# Altium schematic symbol library 2480803-1.SchLib: 1 symbol
Pins are listed as number, name and electrical type; pins without a type are passive.

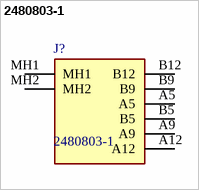
[diagram p0: symbol 2480803-1]

## 2480803-1
designator J?
USB Connectors USB-C Charge Only Receptacle,6 Pin, Vertical, Short, 3u GF; Manufacturer_Name: TE Connectivity; Geometry.Height: 6.5mm; Mouser Part Number: 571-2480803-1; Mouser Price/Stock: https://www.mouser.co.uk/ProductDetail/TE-Connectivity/2480803-1?qs=dbcCsuKDzFUIALFiru2Iew%3D%3D; Manufacturer_Part_Number: 2480803-1; Datasheet Link: https://www.te.com/de/product-2480803-1.datasheet.pdf
footprint 24808031
pins: A5, A9, A12, B5, B9, B12, MH1, MH2